# Altium schematic symbol library TestPins.SchLib: 7 symbols
Pins are listed as number, name and electrical type; pins without a type are passive.

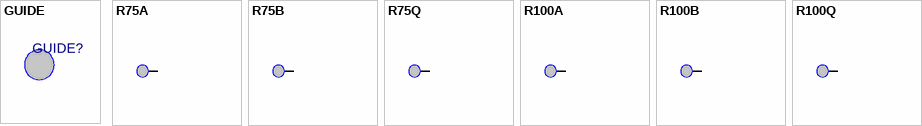
[diagram p0: symbols GUIDE to R100Q]

## GUIDE
designator GUIDE?  (no BOM)
3.2mm non-plated hole for test jig guide.; PcbOnly: Yes
footprint GUIDE

## R75A
designator TP?
Testpoint receptable, for R75 needles; Partname: TR13004T; Manufacturer: Elprint; PcbOnly: Yes
footprint R75 (Test pin socket 1.35mm pin)
pins: 1 NAME

## R75B
designator TP?
Testpoint receptable, for R75 needles; Partname: TR13004T; Manufacturer: Elprint; PcbOnly: Yes
footprint R75 (Test pin socket 1.35mm pin)
pins: 1 NAME

## R75Q
designator TP?
Testpoint receptable, for R75 needles; Partname: TR13004T; Manufacturer: Elprint; PcbOnly: Yes
footprint R75 (Test pin socket 1.35mm pin)
pins: 1 NAME

## R100A
designator TP?
Testpoint receptable, for R100 needles; Partname: TR17004T; Manufacturer: Elprint; PcbOnly: Yes
footprint R100 (Test pin socket 1.7mm)
pins: 1 NAME

## R100B
designator TP?
Testpoint receptable, for R100 needles; Partname: TR17004T; Manufacturer: Elprint; PcbOnly: Yes
footprint R100 (Test pin socket 1.7mm)
pins: 1 NAME

## R100Q
designator TP?
Testpoint receptable, for R100 needles; Partname: TR17004T; Manufacturer: Elprint; PcbOnly: Yes
footprint R100 (Test pin socket 1.7mm)
pins: 1 NAME